# EAGLE library part PTM330-PROG (library EnOcean)
PTM 330 Programmer The Telegram content of the radio transmitter module PTM 33x / PTM 330U / 430J (PTM radio module) from EnOcean can be configured by via EnOcean Developer Kit (EDK 350). As a 'quick and dirty' alternative this footprint can be used to build your own "DIY-Developer Kit".
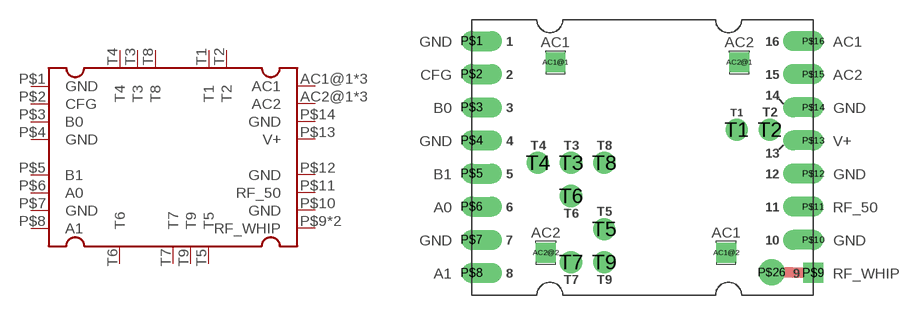
[diagram p1: symbol with the pads of PTM330-PROG; footprint PTM330-PROG]

Designator prefix -

## PTM330-PROG  [PTM330-PROG]
AC1@1  AC1  sup
AC1@2  AC1  sup
AC2@1  AC2  sup
AC2@2  AC2  sup
P$1  GND  pwr
P$2  CFG
P$3  B0  in
P$4  GND  pwr
P$5  B1  in
P$6  A0  in
P$7  GND  pwr
P$8  A1  in
P$9  RF_WHIP  out
P$10  GND  pwr
P$11  RF_50  out
P$12  GND  pwr
P$13  V+  nc
P$14  GND  pwr
P$15  AC2  sup
P$16  AC1  sup
P$26  RF_WHIP  out
T1  T1
T2  T2
T3  T3
T4  T4
T5  T5
T6  T6
T7  T7
T8  T8
T9  T9

## Footprint PTM330-PROG (pad centres in mm)
drill 1 pad 1.5 square: AC1@1 -6.68,7.3; AC1@2 6.42,-7.305; AC2@1 7.42,7.3; AC2@2 -7.42,-7.305
drill 1 pad 1.54 offset: P$1 -13.1,8.925; P$2 -13.1,6.385; P$3 -13.1,3.845; P$4 -13.1,1.305; P$5 -13.1,-1.235; P$6 -13.1,-3.775; P$7 -13.1,-6.315; P$8 -13.1,-8.855; P$10 13.1,-6.315; P$11 13.1,-3.775; P$12 13.1,-1.235; P$13 13.1,1.305; P$14 13.1,3.845; P$15 13.1,6.385; P$16 13.1,8.925
drill 1 pad 1.54 square: P$9 13.1,-8.855
drill 1.2 pad 2: P$26 9.9,-8.795
drill 1.1 pad 1.7: T1 7.22,2.125; T2 9.76,2.125; T3 -5.48,-0.415; T4 -8.02,-0.415; T5 -2.94,-5.495; T6 -5.48,-2.955; T7 -5.48,-8.035; T8 -2.94,-0.415; T9 -2.94,-8.035